# Altium schematic symbol library hole.SchLib: 1 symbol
Pins are listed as number, name and electrical type; pins without a type are passive.

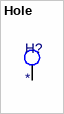
[diagram p0: symbol Hole]

## Hole
designator H?
Hole Plated 2mm
footprint Hole Plated Round Square 2.0x3.6x4.0mm (Hole Plated 2mm 3.6 Round Pad on Top, 4mm Square Pad on Botton)
footprint Hole Plated Round 2.0x3.8 (Hole Plated 2mm 3.8 Round Pad)
pins: 0 (power)